# EAGLE library part GEC18DABN-M30 (library con-sullins)
HEADER - Vertical
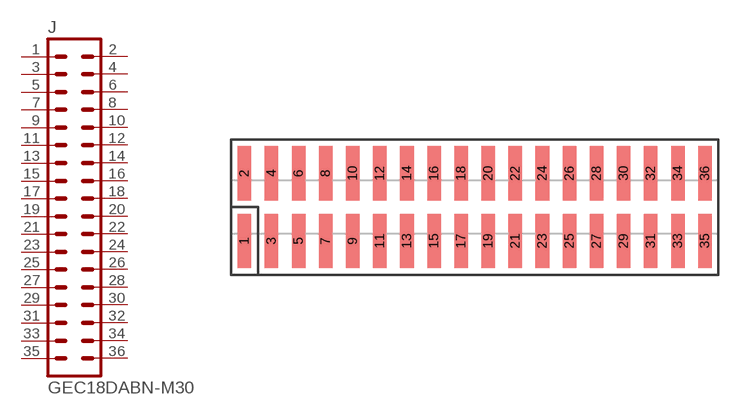
[diagram p14: symbol with the pads of GXC18; footprint GXC18]

Designator prefix J

## GEC18DABN-M30  [GXC18]
1  1  pas
2  2  pas
3  3  pas
4  4  pas
5  5  pas
6  6  pas
7  7  pas
8  8  pas
9  9  pas
10  10  pas
11  11  pas
12  12  pas
13  13  pas
14  14  pas
15  15  pas
16  16  pas
17  17  pas
18  18  pas
19  19  pas
20  20  pas
21  21  pas
22  22  pas
23  23  pas
24  24  pas
25  25  pas
26  26  pas
27  27  pas
28  28  pas
29  29  pas
30  30  pas
31  31  pas
32  32  pas
33  33  pas
34  34  pas
35  35  pas
36  36  pas

## Footprint GXC18 (pad centres in mm)
SMD HEADER - 0.1", Vertical
smd 1.27 x 5.08: 1 -21.59,-3.175; 2 -21.59,3.175; 3 -19.05,-3.175; 4 -19.05,3.175; 5 -16.51,-3.175; 6 -16.51,3.175; 7 -13.97,-3.175; 8 -13.97,3.175; 9 -11.43,-3.175; 10 -11.43,3.175; 11 -8.89,-3.175; 12 -8.89,3.175; 13 -6.35,-3.175; 14 -6.35,3.175; 15 -3.81,-3.175; 16 -3.81,3.175; 17 -1.27,-3.175; 18 -1.27,3.175; 19 1.27,-3.175; 20 1.27,3.175; 21 3.81,-3.175; 22 3.81,3.175; 23 6.35,-3.175; 24 6.35,3.175; 25 8.89,-3.175; 26 8.89,3.175; 27 11.43,-3.175; 28 11.43,3.175; 29 13.97,-3.175; 30 13.97,3.175; 31 16.51,-3.175; 32 16.51,3.175; 33 19.05,-3.175; 34 19.05,3.175; 35 21.59,-3.175; 36 21.59,3.175